# Altium footprint library CON HLE-104-02-x-DV-PE.PcbLib: 1 footprints
Each footprint in its own frame and in the unit in brackets; x right, y up, seen from the top. Pads: shape width x height; smd on the part's side, far side on the other; paste and mask are expansions set on the pad; w line width, h text height; cw(c..) or ccw(c..) is an arc to the next point about the centre after c.
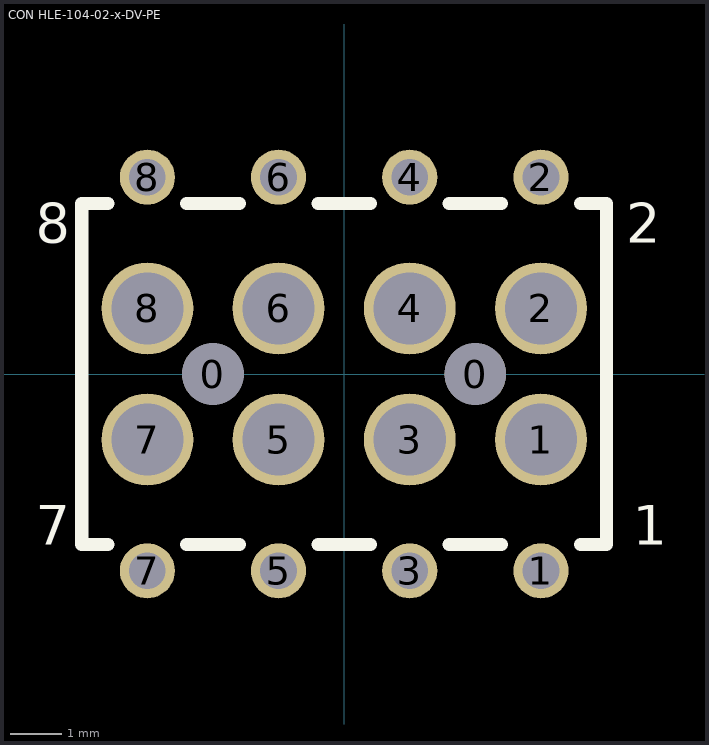
[diagram p0: the footprint, top view; thin cyan lines are the x and y axes]

## CON HLE-104-02-x-DV-PE [mil]
pads (18):
  round 47 hole 47 unplated: 0(-100,0)
  round 47 hole 47 unplated paste+0: 0(100,0)
  round 42 hole 28: 1(150,-150) 2(150,150) 3(50,-150) 4(50,150) 5(-50,-150) 6(-50,150) 7(-150,-150) 8(-150,150)
  round 70 hole 55: 1(150,-50) 2(150,50) 3(50,-50) 4(50,50) 5(-50,-50) 6(-50,50) 7(-150,-50) 8(-150,50)
Top Overlay:
  lines w10: -180,-130 -200,-130 -200,130 -180,130 ; -120,-130 -80,-130 ; -120,130 -80,130 ; -20,-130 20,-130 ; -20,130 20,130 ; 80,-130 120,-130 ; 80,130 120,130 ; 180,-130 200,-130 200,130 180,130
  text "2" at 215,100 h30
  text "1" at 220,-130 h30
  text "8" at -235,100 h30
  text "7" at -235,-130 h30
3D body: height 144.6, standoff -83.4, extent -200,-153 200,153